# Altium footprint library Susumu.PcbLib: 3 footprints
Each footprint in its own frame and in the unit in brackets; x right, y up, seen from the top. Pads: shape width x height; smd on the part's side, far side on the other; paste and mask are expansions set on the pad; w line width, h text height; cw(c..) or ccw(c..) is an arc to the next point about the centre after c.
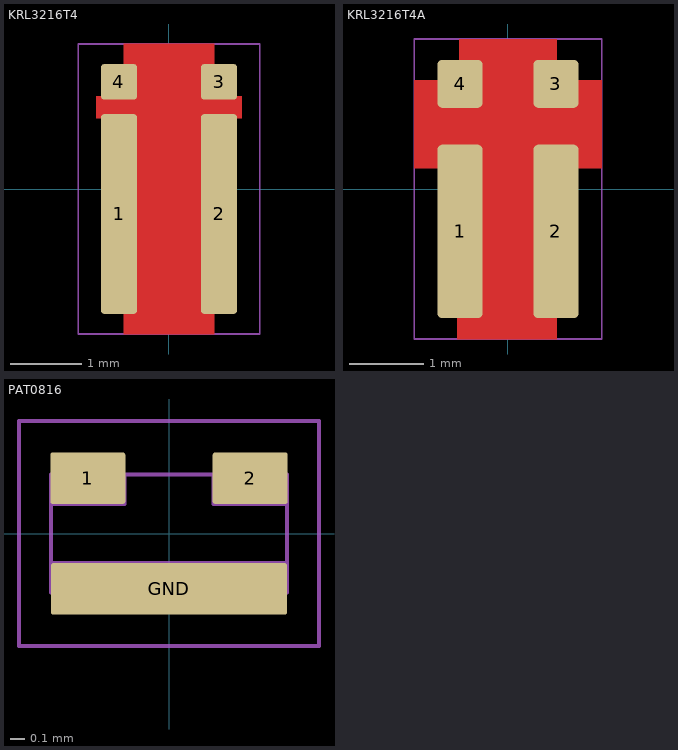
[diagram p0: the footprints below, top view; thin cyan lines are the x and y axes]

## KRL3216T4 [mm]
pads (4):
  rrect20% 0.508x2.8 smd mask+0.051: 1(-0.7,-0.35) 2(0.7,-0.35)
  rrect20% 0.508x0.5 smd mask+0.051: 3(0.7,1.5) 4(-0.7,1.5)
Top Layer:
  pour cut-out: -1.016,0.991 -1.016,1.295 1.016,1.295 1.016,0.991
  pour cut-out: -0.635,-2.032 0.635,-2.032 0.635,2.032 -0.635,2.032
Top Solder:
  region: -0.395,1.5 -1.005,1.5 -1.005,0.865 -0.395,0.865
  region: 1.005,1.5 0.395,1.5 0.395,0.865 1.005,0.865
  rectangle: -0.508,-1.88 0.508,1.88
Top Courtyard:
  lines w0.025: -1.27,-2.032 1.27,-2.032 1.27,2.032 -1.27,2.032 -1.27,-2.032
Top Component Outline:
  lines w0.025: -0.8,1.05 -0.45,1.05 -0.45,-1.6 ; -0.8,1.25 -0.45,1.25 ; -0.45,1.6 -0.45,1.25 ; 0.45,-1.6 0.45,1.05 0.8,1.05 ; 0.45,1.6 0.45,1.25 0.8,1.25 ; -0.45,1.25 ccw(c-0.45,1.25) -0.45,1.25 ; -0.8,-1.6 0.8,-1.6 0.8,1.6 -0.8,1.6 -0.8,-1.6
3D body: height 0.5, standoff 0.02, extent -0.8,-1.6 0.8,1.6

## KRL3216T4A [mm]
pads (4):
  rrect20% 0.608x2.35 smd mask+0.051: 1(-0.65,-0.575) 2(0.65,-0.575)
  rrect20% 0.608x0.65 smd mask+0.051: 3(0.65,1.425) 4(-0.65,1.425)
Top Layer:
  pour cut-out: -0.686,-2.032 0.66,-2.032 0.66,2.032 -0.66,2.032
  pour cut-out: -1.27,1.473 -1.27,0.279 1.27,0.279 1.27,1.473
Top Solder:
  rectangle: -0.508,-1.88 0.508,1.88
  region: 1.067,1.27 -1.067,1.27 -1.067,0.457 1.067,0.457
Top Courtyard:
  lines w0.025: -1.27,-2.032 -1.27,2.032 1.27,2.032 1.27,-2.032 -1.27,-2.032
Top Component Outline:
  lines w0.025: -0.8,0.6 -0.35,0.6 -0.35,-1.6 ; -0.8,1.1 -0.35,1.1 -0.35,1.6 ; 0.35,-1.6 0.35,0.6 0.8,0.6 ; 0.35,1.6 0.35,1.1 0.8,1.1 ; -0.8,-1.6 -0.8,1.6 0.8,1.6 0.8,-1.6 -0.8,-1.6 ; -0.45,1.1 ccw(c-0.45,1.1) -0.45,1.1
3D body: height 0.5, standoff 0.02, extent -0.8,-1.6 0.8,1.6

## PAT0816 [mm]
height 0.4
pads (3):
  rrect10% 0.508x0.35 smd mask+0.025: 1(-0.55,0.375) 2(0.55,0.375)
  rrect10% 1.6x0.35 smd mask+0.025: GND(0,-0.375)
Top Courtyard:
  lines w0.025: -1.016,-0.762 -1.016,0.762 1.016,0.762 1.016,-0.762 -1.016,-0.762
Top Component Outline:
  lines w0.025: -0.8,-0.2 0.8,-0.2 ; -0.8,0.2 -0.3,0.2 -0.3,0.4 ; 0.3,0.4 0.3,0.2 0.8,0.2 ; -0.8,-0.4 -0.8,0.4 0.8,0.4 0.8,-0.4 -0.8,-0.4
3D body: height 0.48, standoff 0, extent -0.813,0.2 -0.3,0.406
3D body: height 0.48, standoff 0, extent 0.3,0.2 0.813,0.406
3D body: height 0.48, standoff 0, extent -0.813,-0.406 0.813,-0.2
3D body: height 0.43, standoff 0.01, extent -0.8,-0.4 0.8,0.4
3D body: height 0.46, standoff 0.43, extent -0.8,-0.4 0.8,0.4